# Altium footprint library Modules.PcbLib: 2 footprints
Each footprint in its own frame and in the unit in brackets; x right, y up, seen from the top. Pads: shape width x height; smd on the part's side, far side on the other; paste and mask are expansions set on the pad; w line width, h text height; cw(c..) or ccw(c..) is an arc to the next point about the centre after c.
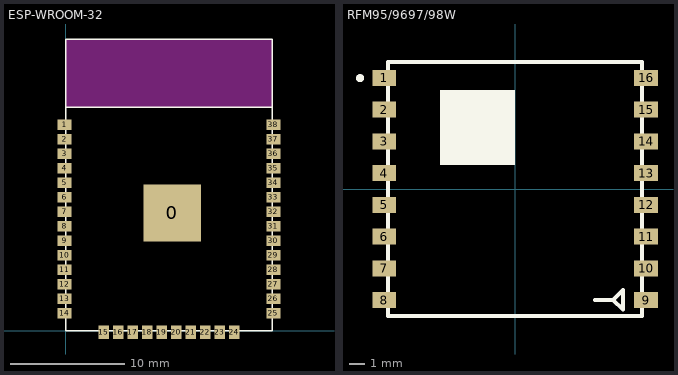
[diagram p0: the footprints below, top view; thin cyan lines are the x and y axes]

## ESP-WROOM-32 [mm] "ESP WROOM 32 Module"
pads (39):
  rect 5x5 smd: 0(9.3,10.3)
  rect 1.2x0.9 smd: 1(-0.127,18.034) 2(-0.127,16.764) 3(-0.127,15.494) 4(-0.127,14.224) 5(-0.127,12.954) 6(-0.127,11.684) 7(-0.127,10.414) 8(-0.127,9.144) 9(-0.127,7.874) 10(-0.127,6.604) 11(-0.127,5.334) 12(-0.127,4.064) 13(-0.127,2.794) 14(-0.127,1.524) 25(18.161,1.524) 26(18.161,2.794) 27(18.161,4.064) 28(18.161,5.334) 29(18.161,6.604) 30(18.161,7.874) 31(18.161,9.144) 32(18.161,10.414) 33(18.161,11.684) 34(18.161,12.954) 35(18.161,14.224) 36(18.161,15.494) 37(18.161,16.764) 38(18.161,18.034)
  rect 0.9x1.2 smd: 15(3.302,-0.127) 16(4.57,-0.127) 17(5.84,-0.127) 18(7.11,-0.127) 19(8.38,-0.127) 20(9.65,-0.127) 21(10.92,-0.127) 22(12.19,-0.127) 23(13.46,-0.127) 24(14.73,-0.127)
Top Overlay:
  lines w0.127: 0,19.558 18.034,19.558 ; 0,0 0,25.527 18.034,25.527 18.034,0 0,0
Keep-Out Layer:
  rectangle: 0,19.558 18.034,25.527
3D body: height 0.8, standoff 0, extent 0,0 18.034,25.527
3D body: height 2, standoff 0.8, extent 0.635,0.635 17.526,19.558

## RFM95/9697/98W [mm] "HopeRF RFM95 RFM96 RFM97 RFM98"
height 1.8
pads (16):
  rect 1.5x1 smd: 1(-8.25,7) 2(-8.25,5) 3(-8.25,3) 4(-8.25,1) 5(-8.25,-1) 6(-8.25,-3) 7(-8.25,-5) 8(-8.25,-7) 9(8.25,-7) 10(8.25,-5) 11(8.25,-3) 12(8.25,-1) 13(8.25,1) 14(8.25,3) 15(8.25,5) 16(8.25,7)
Top Overlay:
  circle w0.254: c-9.779,6.985 r0.126
  rectangle: -4.75,1.5 0,6.25
  lines w0.254: 5.029,-6.983 6.172,-6.983 ; 6.172,-6.983 6.781,-7.592 6.781,-6.374 6.172,-6.983 ; -8.001,-8.001 8.001,-8.001 8.001,8.001 -8.001,8.001 -8.001,-8.001
3D body: height 1.8, standoff 1, extent -4.75,1.5 0,6.25
3D body: height 1, standoff 0, extent -8,-8 8,8